# EAGLE library part SARA-U2 (library Deegou_IC)
RF TXRX MODULE CELLULAR Source: Datasheet <https://www.u-blox.com/sites/default/files/SARA-U2_DataSheet_(UBX-13005287).pdf>
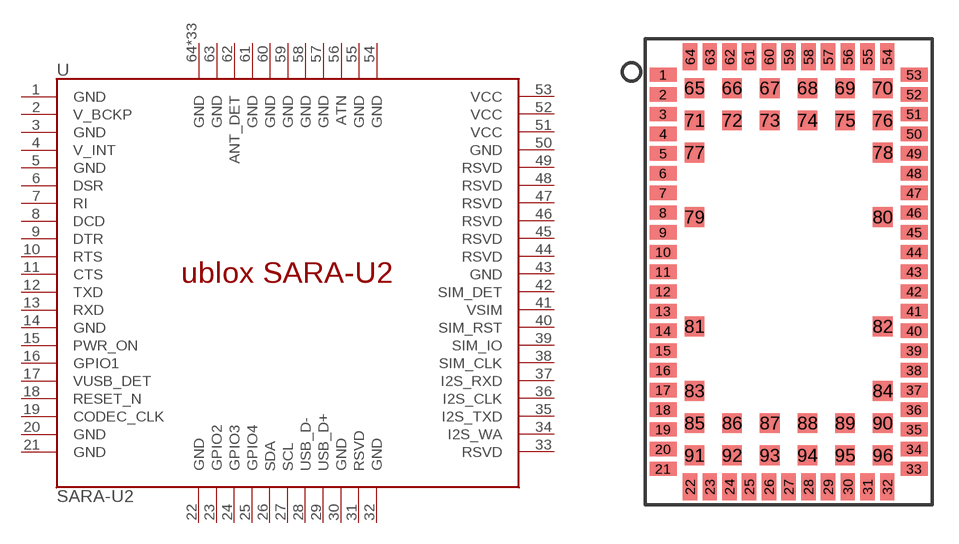
[diagram p151: symbol with the pads of SARA-U201-03B; footprint SARA-U201-03B]

Designator prefix U

## SARA-U2 (ARROW_PART_NUMBER: SARA-U201-03B; DESCRIPTION: RF TXRX MODULE CELLULAR; HEIGHT: mm; MANUFACTURER_NAME: U-Blox; MANUFACTURER_PART_NUMBER: SARA-U201-03B)  [SARA-U201-03B]
1  GND
2  V_BCKP
3  GND
4  V_INT
5  GND
6  DSR
7  RI
8  DCD
9  DTR
10  RTS
11  CTS
12  TXD
13  RXD
14  GND
15  PWR_ON
16  GPIO1
17  VUSB_DET
18  RESET_N
19  CODEC_CLK
20  GND
21  GND
22  GND
23  GPIO2
24  GPIO3
25  GPIO4
26  SDA
27  SCL
28  USB_D-
29  USB_D+
30  GND
31  RSVD
32  GND
33  RSVD
34  I2S_WA
35  I2S_TXD
36  I2S_CLK
37  I2S_RXD
38  SIM_CLK
39  SIM_IO
40  SIM_RST
41  VSIM
42  SIM_DET
43  GND
44  RSVD
45  RSVD
46  RSVD
47  RSVD
48  RSVD
49  RSVD
50  GND
51  VCC
52  VCC
53  VCC
54  GND
55  GND
56  ATN
57  GND
58  GND
59  GND
60  GND
61  GND
62  ANT_DET
63  GND
64  GND
65  GND
66  GND
67  GND
68  GND
69  GND
70  GND
71  GND
72  GND
73  GND
74  GND
75  GND
76  GND
77  GND
78  GND
79  GND
80  GND
81  GND
82  GND
83  GND
84  GND
85  GND
86  GND
87  GND
88  GND
89  GND
90  GND
91  GND
92  GND
93  GND
94  GND
95  GND
96  GND

## Footprint SARA-U201-03B (pad centres in mm)
SARA-U201-03B
smd 1.5 x 0.8: 1 1,11; 2 1,9.9; 3 1,8.8; 4 1,7.7; 5 1,6.6; 6 1,5.5; 7 1,4.4; 8 1,3.3; 9 1,2.2; 10 1,1.1; 11 1,0; 12 1,-1.1; 13 1,-2.2; 14 1,-3.3; 15 1,-4.4; 16 1,-5.5; 17 1,-6.6; 18 1,-7.7; 19 1,-8.8; 20 1,-9.9; 21 1,-11; 33 15,-11; 34 15,-9.9; 35 15,-8.8; 36 15,-7.7; 37 15,-6.6; 38 15,-5.5; 39 15,-4.4; 40 15,-3.3; 41 15,-2.2; 42 15,-1.1; 43 15,0; 44 15,1.1; 45 15,2.2; 46 15,3.3; 47 15,4.4; 48 15,5.5; 49 15,6.6; 50 15,7.7; 51 15,8.8; 52 15,9.9; 53 15,11
smd 0.8 x 1.5: 22 2.5,-12; 23 3.6,-12; 24 4.7,-12; 25 5.8,-12; 26 6.9,-12; 27 8,-12; 28 9.1,-12; 29 10.2,-12; 30 11.3,-12; 31 12.4,-12; 32 13.5,-12; 54 13.5,12; 55 12.4,12; 56 11.3,12; 57 10.2,12; 58 9.1,12; 59 8,12; 60 6.9,12; 61 5.8,12; 62 4.7,12; 63 3.6,12; 64 2.5,12
smd 1.1 x 1.1: 65 2.75,10.25; 66 4.85,10.25; 67 6.95,10.25; 68 9.05,10.25; 69 11.15,10.25; 70 13.25,10.25; 71 2.75,8.45; 72 4.85,8.45; 73 6.95,8.45; 74 9.05,8.45; 75 11.15,8.45; 76 13.25,8.45; 77 2.75,6.65; 78 13.25,6.65; 79 2.75,3.05; 80 13.25,3.05; 81 2.75,-3.05; 82 13.25,-3.05; 83 2.75,-6.65; 84 13.25,-6.65; 85 2.75,-8.45; 86 4.85,-8.45; 87 6.95,-8.45; 88 9.05,-8.45; 89 11.15,-8.45; 90 13.25,-8.45; 91 2.75,-10.25; 92 4.85,-10.25; 93 6.95,-10.25; 94 9.05,-10.25; 95 11.15,-10.25; 96 13.25,-10.25